# EAGLE library part LL7901/02 (library lundahl)
LL7901 / LL7902
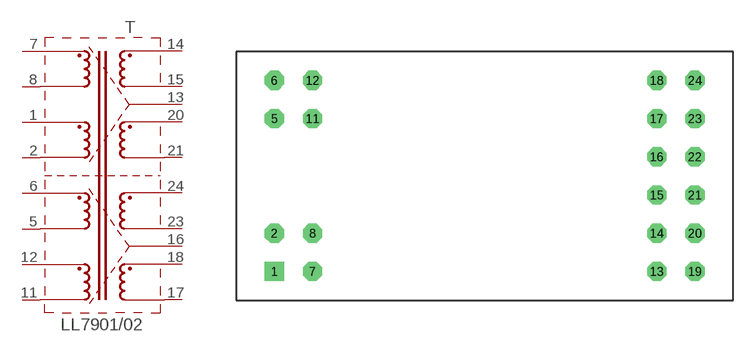
[diagram p22: symbol with the pads of LL7901; footprint LL7901]

Designator prefix T

## LL7901/02  [LL7901]
1  1  pas
2  2  pas
5  5  pas
6  6  pas
7  7  pas
8  8  pas
11  11  pas
12  12  pas
13  13  pas
14  14  pas
15  15  pas
16  16  pas
17  17  pas
18  18  pas
20  20  pas
21  21  pas
23  23  pas
24  24  pas

## Footprint LL7901 (pad centres in mm)
LL7901
drill 1.422 pad 2.54 square: 1 -26.67,-12.7
drill 1.422 pad 2.54 octagon: 2 -26.67,-7.62; 5 -26.67,7.62; 6 -26.67,12.7; 7 -21.59,-12.7; 8 -21.59,-7.62; 11 -21.59,7.62; 12 -21.59,12.7; 13 24.13,-12.7; 14 24.13,-7.62; 15 24.13,-2.54; 16 24.13,2.54; 17 24.13,7.62; 18 24.13,12.7; 19 29.21,-12.7; 20 29.21,-7.62; 21 29.21,-2.54; 22 29.21,2.54; 23 29.21,7.62; 24 29.21,12.7